# EAGLE library part SWITCH_IC_QUAD (library dubec)
Quad Switch IC
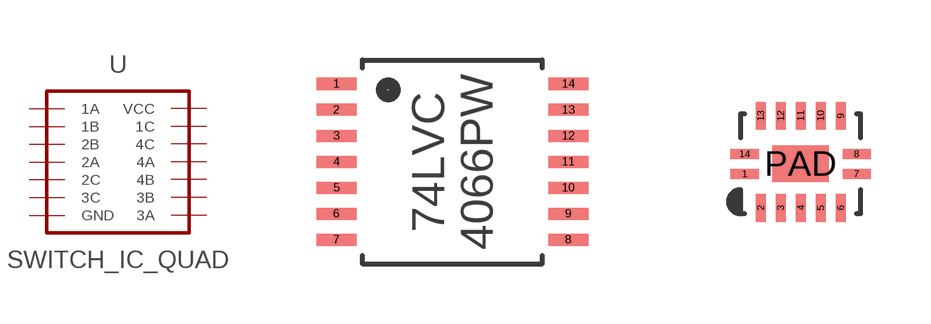
[diagram p14: symbol with the pads of 14-TSSOP; footprints 14-TSSOP, 14-VFQFN]

Designator prefix -

## SWITCH_IC_QUADSN74HC4066PW (DIGIKEY_PART_#: 296-8330-1-ND; EURO: 3.65/10; MANUFACTURER: Texas Instruments; MFG_PART_#: SN74HC4066PWR)  [14-TSSOP]
1  1A  pas
2  1B  pas
3  2B  pas
4  2A  pas
5  2C  pas
6  3C  pas
7  GND  pas
8  3A  pas
9  3B  pas
10  4B  pas
11  4A  pas
12  4C  pas
13  1C  pas
14  VCC  pas

## SWITCH_IC_QUAD74LVC4066 (DIGIKEY_PART_#: 568-3019-1-ND; EURO: 5.11/10; MANUFACTURER: NXP Semiconductors; MFG_PART_#: 74LVC4066BQ,115; TEMP: -40°C ~ 125°C)  [14-VFQFN]
1  1A  pas
2  1B  pas
3  2B  pas
4  2A  pas
5  2C  pas
6  3C  pas
7  GND  pas
8  3A  pas
9  3B  pas
10  4B  pas
11  4A  pas
12  4C  pas
13  1C  pas
14  VCC  pas
PAD  GND  pas

## Footprint 14-TSSOP (pad centres in mm)
smd 1 x 0.3: 1 -2.9,1.95; 2 -2.9,1.3; 3 -2.9,0.65; 4 -2.9,0; 5 -2.9,-0.65; 6 -2.9,-1.3; 7 -2.9,-1.95; 8 2.9,-1.95; 9 2.9,-1.3; 10 2.9,-0.65; 11 2.9,0; 12 2.9,0.65; 13 2.9,1.3; 14 2.9,1.95

## Footprint 14-VFQFN (pad centres in mm)
smd 0.7 x 0.25: 1 -1.4,-0.25; 7 1.4,-0.25; 8 1.4,0.25; 14 -1.4,0.25
smd 0.25 x 0.7: 2 -1,-1.1; 3 -0.5,-1.1; 4 0,-1.1; 5 0.5,-1.1; 6 1,-1.1; 9 1,1.2; 10 0.5,1.2; 11 0,1.2; 12 -0.5,1.2; 13 -1,1.2
smd 1.4 x 0.9: PAD 0,0